# Altium footprint library ethernet connector.PcbLib: 3 footprints
Each footprint in its own frame and in the unit in brackets; x right, y up, seen from the top. Pads: shape width x height; smd on the part's side, far side on the other; paste and mask are expansions set on the pad; w line width, h text height; cw(c..) or ccw(c..) is an arc to the next point about the centre after c.
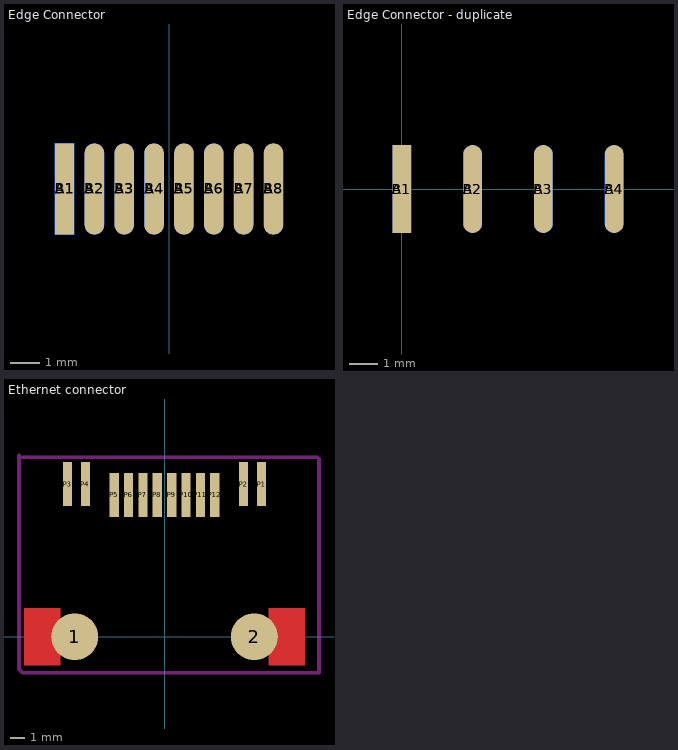
[diagram p0: the footprints below, top view; thin cyan lines are the x and y axes]

## Edge Connector [mm]
pads (16):
  rect 0.66x3.1 smd: A1(-3.556,10.033)
  oval 0.66x3.1 smd: A2(-2.54,10.033) A3(-1.524,10.033) A4(-0.508,10.033) A5(0.508,10.033) A6(1.524,10.033) A7(2.54,10.033) A8(3.556,10.033)
  rect 0.66x3.1 smd far side: B1(-3.556,10.033)
  oval 0.66x3.1 smd far side: B2(-2.54,10.033) B3(-1.524,10.033) B4(-0.508,10.033) B5(0.508,10.033) B6(1.524,10.033) B7(2.54,10.033) B8(3.556,10.033)

## Edge Connector - duplicate [mm]
pads (8):
  rect 0.66x3.1 smd: A1(0,0)
  oval 0.66x3.1 smd: A2(2.5,0) A3(5,0) A4(7.5,0)
  rect 0.66x3.1 smd far side: B1(0,0)
  oval 0.66x3.1 smd far side: B2(2.5,0) B3(5,0) B4(7.5,0)

## Ethernet connector [mm] "connector for ethernet"
pads (14):
  round 3.32 smd: 1(-6.35,0) 2(6.35,0)
  rect 0.66x3.1 smd: P1(6.858,10.795) P2(5.588,10.795) P3(-6.858,10.795) P4(-5.588,10.795) P5(-3.556,10.033) P6(-2.54,10.033) P7(-1.524,10.033) P8(-0.508,10.033) P9(0.508,10.033) P10(1.524,10.033) P11(2.54,10.033) P12(3.556,10.033)
Top Layer:
  region: 7.366,2.032 9.906,2.032 9.906,-2.032 7.366,-2.032
  region: -9.906,2.032 -7.366,2.032 -7.366,-2.032 -9.906,-2.032
Top Layer keep-out:
  lines w0.254: -10.287,-2.286 -10.287,12.827 -10.16,12.7 10.795,12.7 10.922,12.573 10.922,-2.54 -10.033,-2.54 -10.287,-2.286